# Altium schematic symbol library PMA5-123-3W+.SchLib: 1 symbol
Pins are listed as number, name and electrical type; pins without a type are passive.

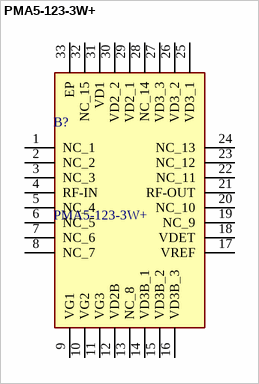
[diagram p0: symbol PMA5-123-3W+]

## PMA5-123-3W+
designator B?
Mini-Circuits SMT MMIC, High Power Amplifier, 8 to 12 GHz, 50ohm; Geometry.Height: 1mm; Mouser Part Number: *; Mouser Price/Stock: *; Manufacturer_Name: Mini-Circuits; Manufacturer_Part_Number: PMA5-123-3W+; Datasheet Link: https://www.minicircuits.com/pdfs/PMA5-123-3W+.pdf
footprint QFN50P500X500X100-33N-D
pins: 1 NC_1, 2 NC_2, 3 NC_3, 4 RF-IN, 5 NC_4, 6 NC_5, 7 NC_6, 8 NC_7, 9 VG1, 10 VG2, 11 VG3, 12 VD2B, 13 NC_8, 14 VD3B_1, 15 VD3B_2, 16 VD3B_3, 17 VREF, 18 VDET, 19 NC_9, 20 NC_10, 21 RF-OUT, 22 NC_11, 23 NC_12, 24 NC_13, 25 VD3_1, 26 VD3_2, 27 VD3_3, 28 NC_14, 29 VD2_1, 30 VD2_2, 31 VD1, 32 NC_15, 33 EP